# Altium schematic symbol library DM1090FFC.SchLib: 11 symbols
Pins are listed as number, name and electrical type; pins without a type are passive.

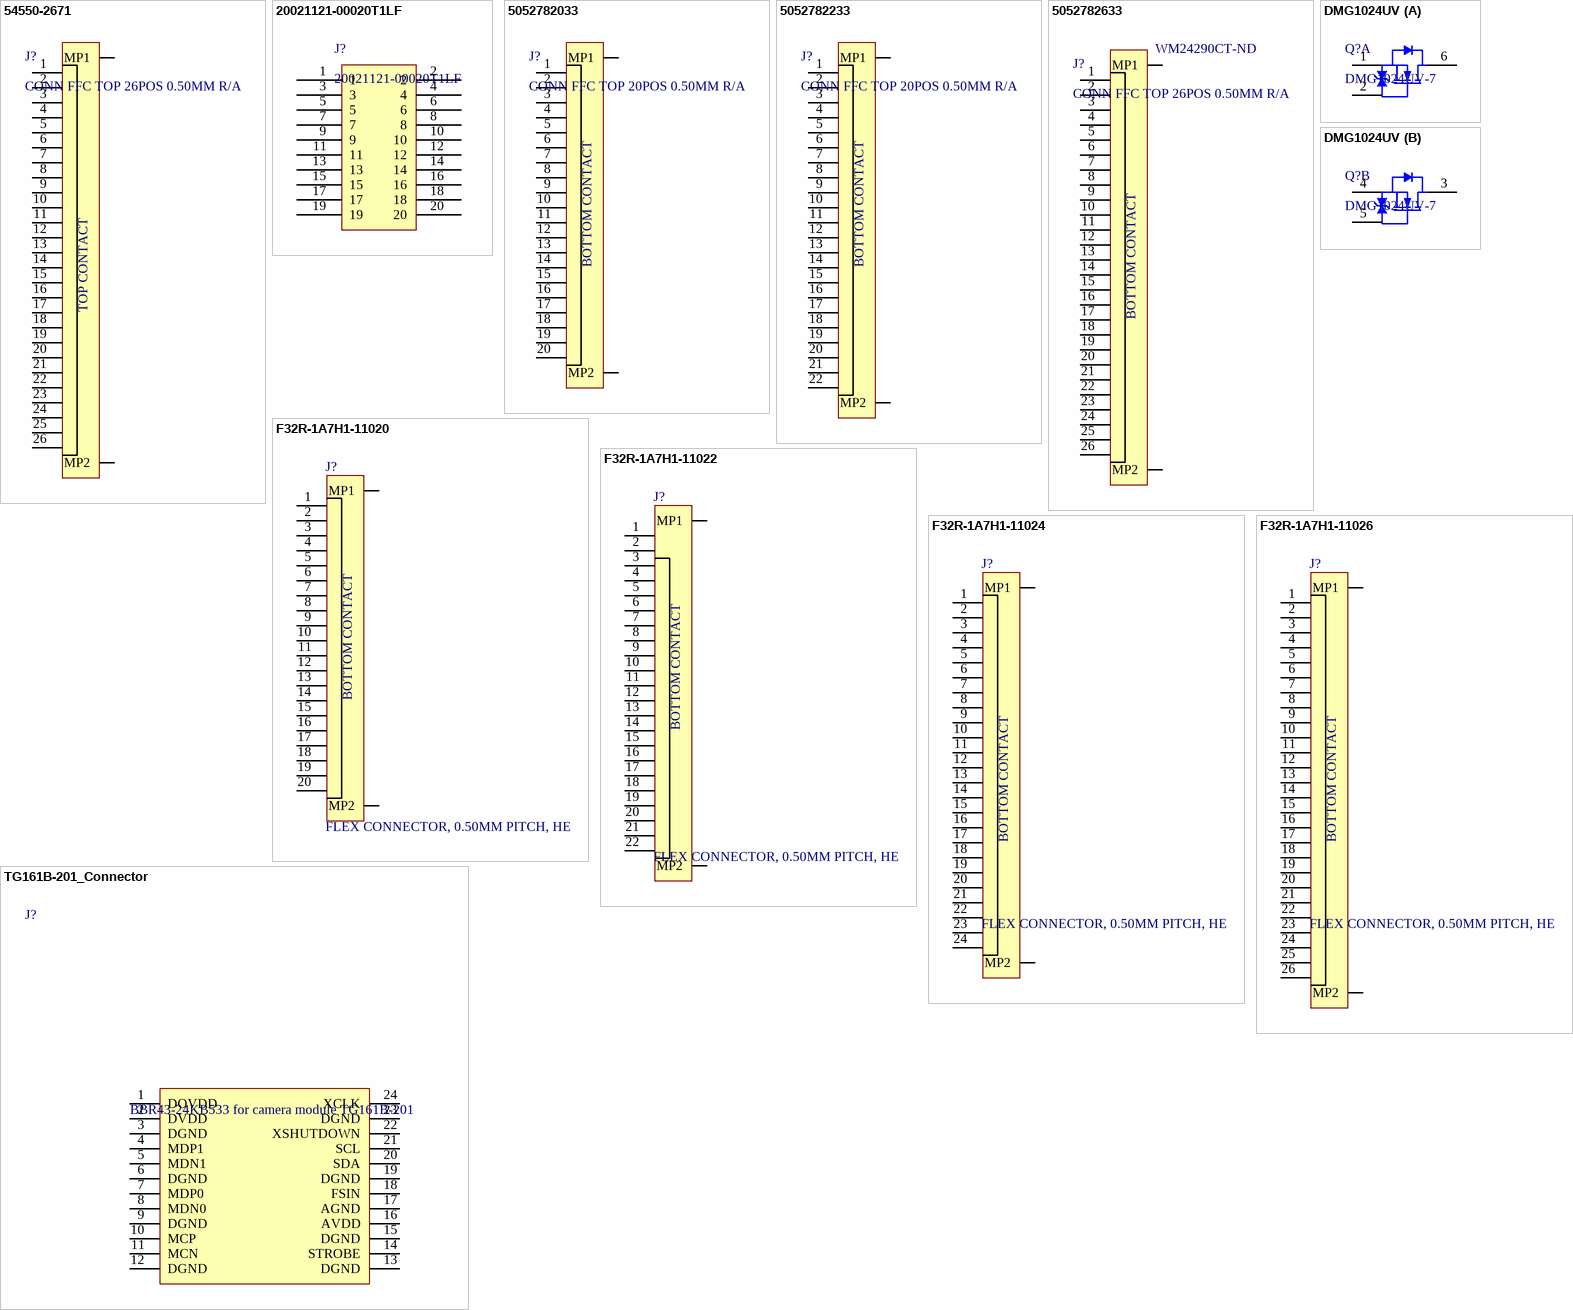
[diagram p0: symbols 54550-2671 to TG161B-201_Connector]

## 54550-2671
designator J?, comment CONN FFC TOP 26POS 0.50MM R/A
Manufacturer 1: Molex; Manufacturer Part Number 1: 54550-2671; Actuator Material: Polyphenylene; Current Rating: 500mA; Voltage Rating: 50V; Contact Resistance: 40mR; Number of Positions: 26; Wire/Cable Type: Straight; Mating Cycles: 20; Pitch: 0.5mm; Supplier 1: Digi-Key; Stock 1: 6245; Pricing 1: 1=2.84000, 10=2.72700, 25=2.50000, 50=2.38620, 100=2.27260, 250=1.98852 (USD); RoHS: Yes; Mount: Surface Mount; Contact Material: Bronze; Contact Plating: Gold; Housing Material: Polymer; Housing Color: Natural; Min Operating Temperature: -20°C; Max Operating Temperature: 85°C; Packaging: Tape and Reel; Package Quantity: 750; Number of Rows: 1; Termination: Solder; Number of Contacts: 26; Orientation: Right Angle; Length: 18.2mm; Depth: 5mm; Flammability Rating: UL94 V-0; ComponentLink1URL: https://datasheet.ciiva.com/5136/0545502671-ffc-fpc-connectors-228748-5136548.pdf?src-supplier=Mouser; ComponentLink1Description: https://datasheet.ciiva.com/5136/0545502671-ffc-fpc-connectors-228748-5136548.pdf?src-supplier=Mouser; ComponentLink2URL: https://datasheet.ciiva.com/3925/24240545502671-ffc-fpc-nectors-3925432.pdf?src-supplier=Arrow; ComponentLink2Description: https://datasheet.ciiva.com/3925/24240545502671-ffc-fpc-nectors-3925432.pdf?src-supplier=Arrow; ComponentLink3URL: https://datasheet.ciiva.com/16659/0545502671-ffc-fpc-connectors-16659849.pdf?src-supplier=Avnet+Europe; ComponentLink3Description: https://datasheet.ciiva.com/16659/0545502671-ffc-fpc-connectors-16659849.pdf?src-supplier=Avnet+Europe; ComponentLink4URL: https://datasheet.ciiva.com/15177/getdatasheetpartid-704282-15177102.pdf?src-supplier=Verical; ComponentLink4Description: https://datasheet.ciiva.com/15177/getdatasheetpartid-704282-15177102.pdf?src-supplier=Verical; ComponentLink5URL: https://datasheet.ciiva.com/15245/285330545502671-ffc-fpc-nectors-15245807.pdf?src-supplier=Arrow+Europe; ComponentLink5Description: https://datasheet.ciiva.com/15245/285330545502671-ffc-fpc-nectors-15245807.pdf?src-supplier=Arrow+Europe; ComponentLink6URL: https://datasheet.ciiva.com/10366/0545502671-ffc-fpc-connectors-10366875.pdf?src-supplier=Avnet; ComponentLink6Description: https://datasheet.ciiva.com/10366/0545502671-ffc-fpc-connectors-10366875.pdf?src-supplier=Avnet; Supplier 2: Digi-Key; Supplier 3: Mouser; Supplier 4: Arrow; Supplier Part Number 1: WM8809CT-ND; Supplier Part Number 2: WM8809TR-ND; Supplier Part Number 3: 538-54550-2671; Supplier Part Number 4: 54550-2671
footprint 54550-2671 (26pin Molex FFC 0.5mm TOP)
pins: 1, 2, 3, 4, 5, 6, 7, 8, 9, 10, 11, 12, 13, 14, 15, 16, 17, 18, 19, 20, 21, 22, 23, 24, 25, 26, MP1, MP2
text: TOP CONTACT

## 20021121-00020T1LF
designator J?
Conn Unshrouded Header HDR 20 POS 1.27mm Solder ST SMD Tube; Manufacturer 1: Amphenol FCI; Contact Resistance: 30mR; Number of Positions: 20; Max Voltage Rating (AC): 125V; Connector Type: Male Pin; Row Spacing: 0.05inch; Supplier 1: Avnet; Manufacturer Part Number 1: 20021121-00020T1LF; Stock 1: 0; Pricing 1: 1840=0.65487, 3680=0.63909, 7360=0.62487, 11040=0.61127, 18400=0.60354 (USD); RoHS: Yes; Mount: Surface Mount; Contact Plating: Gold; Contact Material: Copper Alloy; Color: Black; Housing Color: Black; Housing Material: Thermoplastic; Min Operating Temperature: -40°C; Max Operating Temperature: 85°C; Packaging: Rail/Tube; Package Quantity: 46; Number of Rows: 2; Termination: Solder; Number of Contacts: 20; Orientation: Straight; Length: 12.7mm; Pitch: 1.27mm; Contact Mating Length: 0.12inch; Depth: 3.4mm; ComponentLink1URL: https://datasheet.ciiva.com/18660/20021121-18660311.pdf?src-supplier=Digi-Key; ComponentLink1Description: https://datasheet.ciiva.com/18660/20021121-18660311.pdf?src-supplier=Digi-Key; ComponentLink2URL: https://datasheet.ciiva.com/10033/20021121-10033355.pdf?src-supplier=Avnet; ComponentLink2Description: https://datasheet.ciiva.com/10033/20021121-10033355.pdf?src-supplier=Avnet; Supplier Part Number 1: 20021121-00020T1LF
footprint 20021121-00020T1LF (20pin SMT Minitek127 1.27mm pitch)
pins: 1, 2, 3, 4, 5, 6, 7, 8, 9, 10, 11, 12, 13, 14, 15, 16, 17, 18, 19, 20

## 5052782033
designator J?, comment CONN FFC TOP 20POS 0.50MM R/A
0.5 Ffc Zif Btm Cont Embt Pkg 0.5 Fpc Zif Btm FS19; Manufacturer 1: Molex; Manufacturer Part Number 1: 505278-2033; Actuator Material: Nylon,Glass,Polyamide; Number of Positions: 20; Voltage Rating: 50V; Current Rating: 500mA; Pitch: 0.02inch; Supplier 1: Digi-Key; RoHS: Yes; Category: Connectors; Stock 1: 13841; Pricing 1: 1=0,71000, 10=0,59800, 100=0,46540, 1000=0,36564 (USD); Mount: Surface Mount; Contact Plating: Tin; Contact Material: Bronze; Housing Material: Polymer; Min Operating Temperature: -40°C; Max Operating Temperature: 85°C; Packaging: Tape and Reel; Termination: Solder; Flammability Rating: UL94 V-0; ComponentLink1URL: http://www.molex.com/pdm_docs/sd/5052782033_sd.pdf?src-supplier=Digi-Key; ComponentLink1Description: http://www.molex.com/pdm_docs/sd/5052782033_sd.pdf?src-supplier=Digi-Key
footprint 5052782033 (20pin Molex FFC 0.5mm TOP)
pins: 1, 2, 3, 4, 5, 6, 7, 8, 9, 10, 11, 12, 13, 14, 15, 16, 17, 18, 19, 20, MP1, MP2
text: BOTTOM CONTACT

## 5052782233
designator J?, comment CONN FFC TOP 20POS 0.50MM R/A
0.5 Ffc Zif Btm Cont Embt Pkg 0.5 Fpc Zif Btm FS19; Manufacturer 1: Molex; Manufacturer Part Number 1: 505278-2233; Actuator Material: Nylon,Glass,Polyamide; Number of Positions: 22; Voltage Rating: 50V; Current Rating: 500mA; Pitch: 0.02inch; Supplier 1: Farnell; RoHS: Yes; Category: Connectors; Stock 1: 12000; Pricing 1: 3000=0,59600 (EUR); Mount: Surface Mount; Contact Material: Bronze; Housing Material: Polymer; Contact Plating: Tin; Min Operating Temperature: -40°C; Max Operating Temperature: 85°C; Packaging: Tape and Reel; Termination: Solder; Flammability Rating: UL94 V-0; ComponentLink1URL: https://www.molex.com/pdm_docs/sd/5052782233_sd.pdf?src-supplier=Digi-Key; ComponentLink1Description: https://www.molex.com/pdm_docs/sd/5052782233_sd.pdf?src-supplier=Digi-Key; Supplier Part Number 1: 3499046
footprint 5052782233 (22pin Molex FFC 0.5mm TOP)
pins: 1, 2, 3, 4, 5, 6, 7, 8, 9, 10, 11, 12, 13, 14, 15, 16, 17, 18, 19, 20, 21, 22, MP1, MP2
text: BOTTOM CONTACT

## 5052782633
designator J?, comment CONN FFC TOP 26POS 0.50MM R/A  Supplier Part Number 1: WM24290CT-ND
0.5 Ffc Zif Btm Cont Embt Pkg 0.5 Fpc Zif Btm FS19; Manufacturer 1: Molex; Manufacturer Part Number 1: 505278-2633; Actuator Material: Nylon,Glass,Polyamide; Number of Positions: 26; Voltage Rating: 50V; Current Rating: 500mA; Pitch: 0.02inch; Supplier 1: Digi-Key; RoHS: Yes; Category: Connectors; Stock 1: 8571; Pricing 1: 1=0,85000, 10=0,70400, 100=0,58660, 1000=0,46928 (USD); Mount: Surface Mount; Housing Material: Polymer; Contact Material: Bronze; Contact Plating: Tin; Min Operating Temperature: -40°C; Max Operating Temperature: 85°C; Packaging: Tape and Reel; Termination: Solder; Flammability Rating: UL94 V-0; ComponentLink1URL: http://www.molex.com/pdm_docs/sd/5052782633_sd.pdf?src-supplier=Digi-Key; ComponentLink1Description: http://www.molex.com/pdm_docs/sd/5052782633_sd.pdf?src-supplier=Digi-Key
footprint 5052782633 (26pin Molex FFC 0.5mm TOP)
pins: 1, 2, 3, 4, 5, 6, 7, 8, 9, 10, 11, 12, 13, 14, 15, 16, 17, 18, 19, 20, 21, 22, 23, 24, 25, 26, MP1, MP2
text: BOTTOM CONTACT

## DMG1024UV
designator Q?, comment DMG1024UV-7
Trans MOSFET N-CH 20V 1.38A Automotive 6-Pin SOT-563 T/R; Manufacturer 1: Diodes Zetex; Rds On Max: 450mR; Input Capacitance: 60.67pF; Rise Time: 7.4ns; Max Power Dissipation: 530mW; Fall Time: 12.3ns; Gate to Source Voltage (Vgs): 6V; Drain to Source Resistance: 300mR; Turn-Off Delay Time: 26.7ns; Number of Elements: 2; Turn-On Delay Time: 5.1ns; Element Configuration: Dual; On-State Resistance: 10R; FET Type: 2 N-Channel; Polarity: N-CHANNEL; Supplier 1: Digi-Key; Manufacturer Part Number 1: DMG1024UV-7; RoHS: Yes; Category: MOSFETs; Stock 1: 34512; Pricing 1: 1=0,40000, 10=0,31000, 25=0,29640, 100=0,18600, 500=0,17224, 1000=0,11713 (USD); Mount: Surface Mount; Case/Package: SOT-563; Number of Pins: 6; Weight: 0.000106oz; Min Operating Temperature: -55°C; Max Operating Temperature: 150°C; Packaging: Tape and Reel; Package Quantity: 3000; Drain to Source Voltage (Vdss): 20V; Continuous Drain Current (ID): 1.38A; Drain to Source Breakdown Voltage: 20V; Power Dissipation: 530mW; Number of Channels: 2; Series: -; Drain-source On Resistance-Max: 10R; Length: 1.7mm; Width: 1.25mm; Height: 0.6mm; Radiation Hardening: No; REACH SVHC: No SVHC; Lead Free: Lead Free; RoHS Compliant: Yes; ComponentLink1URL: https://datasheet.ciiva.com/6386/ds31974-6386979.pdf?src-supplier=Digi-Key; ComponentLink1Description: https://datasheet.ciiva.com/6386/ds31974-6386979.pdf?src-supplier=Digi-Key; ComponentLink2URL: https://datasheet.ciiva.com/4442/ds31974-57480-4442871.pdf?src-supplier=Mouser; ComponentLink2Description: https://datasheet.ciiva.com/4442/ds31974-57480-4442871.pdf?src-supplier=Mouser; ComponentLink3URL: https://datasheet.ciiva.com/8115/ds31974-8115349.pdf?src-supplier=Avnet; ComponentLink3Description: https://datasheet.ciiva.com/8115/ds31974-8115349.pdf?src-supplier=Avnet; ComponentLink4URL: https://datasheet.ciiva.com/6386/ds31974-6386984.pdf?src-supplier=Digi-Key; ComponentLink4Description: https://datasheet.ciiva.com/6386/ds31974-6386984.pdf?src-supplier=Digi-Key; ComponentLink5URL: https://datasheet.ciiva.com/6386/ds31974-6386982.pdf?src-supplier=Digi-Key; ComponentLink5Description: https://datasheet.ciiva.com/6386/ds31974-6386982.pdf?src-supplier=Digi-Key; ComponentLink6URL: https://datasheet.ciiva.com/16432/ds31974-16432311.pdf?src-supplier=Future+Electronics; ComponentLink6Description: https://datasheet.ciiva.com/16432/ds31974-16432311.pdf?src-supplier=Future+Electronics; Supplier Part Number 1: DMG1024UV-7DICT-ND
footprint DMG1024UV (SOT-563, SOT-563-6)
part A pins: 1 S1 (power), 2 G1, 6 D1 (power)
part B pins: 3 D2, 4 S2 (power), 5 G2

## F32R-1A7H1-11020
designator J?, comment FLEX CONNECTOR, 0.50MM PITCH, HE
20 Position FFC, FPC Connector Contacts, Bottom 0.020" (0.50mm) Surface Mount, Right Angle; Manufacturer 1: Amphenol ICC (FCI); Manufacturer Part Number 1: F32R-1A7H1-11020; Number of Positions: 20; Voltage Rating: 50V; Current Rating: 500mA; Pitch: 0.02inch; Supplier 1: Digi-Key; RoHS: Yes; Category: Connectors; Pricing 1: 1=0.63, 10=0.587, 100=0.4501, 500=0.3914 (USD); Mount: Surface Mount; Contact Plating: Tin; Contact Material: Bronze; Min Operating Temperature: -40°C; Max Operating Temperature: 105°C; Packaging: Tape and Reel; Termination: Solder; Flammability Rating: UL94 V-0; ComponentLink1URL: https://cdn.amphenol-icc.com/media/wysiwyg/files/drawing/f32r-f32j.pdf; ComponentLink1Description: https://cdn.amphenol-icc.com/media/wysiwyg/files/drawing/f32r-f32j.pdf; Stock 1: 1709
footprint F32R-1A7H1-11020 (20pin Molex FFC 0.5mm TOP)
pins: 1, 2, 3, 4, 5, 6, 7, 8, 9, 10, 11, 12, 13, 14, 15, 16, 17, 18, 19, 20, MP1, MP2
text: BOTTOM CONTACT

## F32R-1A7H1-11022
designator J?, comment FLEX CONNECTOR, 0.50MM PITCH, HE
22 Position FFC, FPC Connector Contacts, Bottom 0.020" (0.50mm) Surface Mount, Right Angle; Manufacturer 1: Amphenol ICC / FCI; Manufacturer Part Number 1: F32R-1A7H1-11022; Number of Positions: 22; Voltage Rating: 50V; Current Rating: 500mA; Pitch: 0.02inch; RoHS: Yes; Category: Connectors; Mount: Surface Mount; Contact Plating: Tin; Contact Material: Bronze; Min Operating Temperature: -40°C; Max Operating Temperature: 105°C; Packaging: Tape and Reel; Termination: Solder; Flammability Rating: UL94 V-0; Supplier 1: Digi-Key; Stock 1: 1796; Pricing 1: 1=0,69000, 10=0,64700, 25=0,58280, 50=0,51800, 100=0,49630, 250=0,45320, 500=0,43160 (USD); Supplier Part Number 1: 609-F32R-1A7H1-11022CT-ND
footprint F32R-1A7H1-11022 (26pin Molex FFC 0.5mm Bottom)
pins: 1, 2, 3, 4, 5, 6, 7, 8, 9, 10, 11, 12, 13, 14, 15, 16, 17, 18, 19, 20, 21, 22, MP1, MP2
text: BOTTOM CONTACT

## F32R-1A7H1-11024
designator J?, comment FLEX CONNECTOR, 0.50MM PITCH, HE
FPC/FFC Connector Socket 24 Position 0.5mm Bottom Contact Solder Right Angle Surface Mount T/R; Manufacturer 1: Amphenol ICC / FCI; Manufacturer Part Number 1: F32R-1A7H1-11024; Number of Positions: 24; Voltage Rating: 50V; Current Rating: 500mA; Pitch: 0.02inch; RoHS: Yes; Category: Connectors; Pricing 1: 1=0,74000, 10=0,69300, 25=0,62360, 50=0,55440, 100=0,53130, 250=0,48512, 500=0,46200 (USD); Mount: Surface Mount; Contact Plating: Tin; Contact Material: Bronze; Min Operating Temperature: -40°C; Max Operating Temperature: 105°C; Packaging: Tape and Reel; Termination: Solder; Flammability Rating: UL94 V-0; ComponentLink1URL: https://cdn.amphenol-icc.com/media/wysiwyg/files/drawing/f32r-f32j.pdf; ComponentLink1Description: https://cdn.amphenol-icc.com/media/wysiwyg/files/drawing/f32r-f32j.pdf; Supplier 1: Digi-Key; Stock 1: 1470; Supplier Part Number 1: 609-F32R-1A7H1-11024CT-ND
footprint F32R-1A7H1-11024 (24pin Molex FFC 0.5mm Bottom)
pins: 1, 2, 3, 4, 5, 6, 7, 8, 9, 10, 11, 12, 13, 14, 15, 16, 17, 18, 19, 20, 21, 22, 23, 24, MP1, MP2
text: BOTTOM CONTACT

## F32R-1A7H1-11026
designator J?, comment FLEX CONNECTOR, 0.50MM PITCH, HE
26 Position FFC, FPC Connector Contacts, Bottom 0.020" (0.50mm) Surface Mount, Right Angle; Manufacturer 1: Amphenol ICC (FCI); Manufacturer Part Number 1: F32R-1A7H1-11026; Number of Positions: 26; Voltage Rating: 50V; Current Rating: 500mA; Pitch: 0.02inch; Supplier 1: Digi-Key; RoHS: Yes; Category: Connectors; Pricing 1: 1=0.77, 10=0.721, 100=0.5529, 500=0.4808 (USD); Mount: Surface Mount; Contact Plating: Tin; Contact Material: Bronze; Min Operating Temperature: -40°C; Max Operating Temperature: 105°C; Packaging: Tape and Reel; Termination: Solder; Flammability Rating: UL94 V-0; ComponentLink1URL: https://cdn.amphenol-icc.com/media/wysiwyg/files/drawing/f32r-f32j.pdf; ComponentLink1Description: https://cdn.amphenol-icc.com/media/wysiwyg/files/drawing/f32r-f32j.pdf; Stock 1: 1709; Supplier Part Number 1: 609-F32R-1A7H1-11026CT-ND
footprint F32R-1A7H1-11026 (26pin Molex FFC 0.5mm Bottom)
pins: 1, 2, 3, 4, 5, 6, 7, 8, 9, 10, 11, 12, 13, 14, 15, 16, 17, 18, 19, 20, 21, 22, 23, 24, 25, 26, MP1, MP2
text: BOTTOM CONTACT

## TG161B-201_Connector
designator J?, comment BBR43-24KB533 for camera module TG161B-201
CONN 24 way, 2 row board to board connector SMD; Manufacturer 1: ACON; RoHS: Yes; Manufacturer Part Number 1: BBR43-24KB533; Supplier 1: Digsemi; Supplier Part Number 1: BBR43-24KB533
footprint TG161B-201
footprint TG161B-201_HD (IPC High density version)
footprint TG161B-201 / AN01V32 - Board Wrap (7mm setback) MinPads (SMT connector: BBR43-24KB533, 7mm camera setback)
footprint TG161B-201 / AN01V32 - Board Wrap (SMT connector: BBR43-24KB533)
pins: 1 DOVDD, 2 DVDD, 3 DGND, 4 MDP1, 5 MDN1, 6 DGND, 7 MDP0, 8 MDN0, 9 DGND, 10 MCP, 11 MCN, 12 DGND, 13 DGND, 14 STROBE, 15 DGND, 16 AVDD, 17 AGND, 18 FSIN, 19 DGND, 20 SDA, 21 SCL, 22 XSHUTDOWN, 23 DGND, 24 XCLK